# Altium schematic symbol library Memory_EEPROM.SchLib: 2 symbols
Pins are listed as number, name and electrical type; pins without a type are passive.

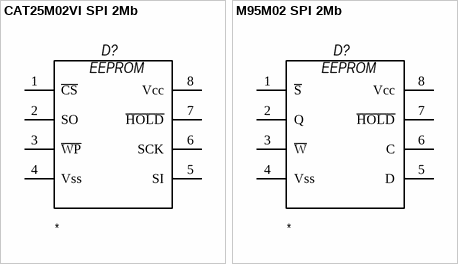
[diagram p0: symbols CAT25M02VI SPI 2Mb to M95M02 SPI 2Mb]

## CAT25M02VI SPI 2Mb
designator D?, comment 2-Mbit serial SPI bus EEPROM  (value not drawn)
firm: *; Comment_1: *; value: *
footprint SO-8
pins: 1 ~{CS}, 2 SO, 3 ~{WP}, 4 Vss, 5 SI, 6 SCK, 7 ~{HOLD}, 8 Vcc
text: EEPROM

## M95M02 SPI 2Mb
designator D?, comment 2-Mbit serial SPI bus EEPROM  (value not drawn)
firm: *; Comment_1: *; value: *
footprint SO-8
pins: 1 ~{S}, 2 Q, 3 ~{W}, 4 Vss, 5 D, 6 C, 7 ~{HOLD}, 8 Vcc
text: EEPROM